# Altium schematic symbol library Symbols.SchLib: 29 symbols
Pins are listed as number, name and electrical type; pins without a type are passive.

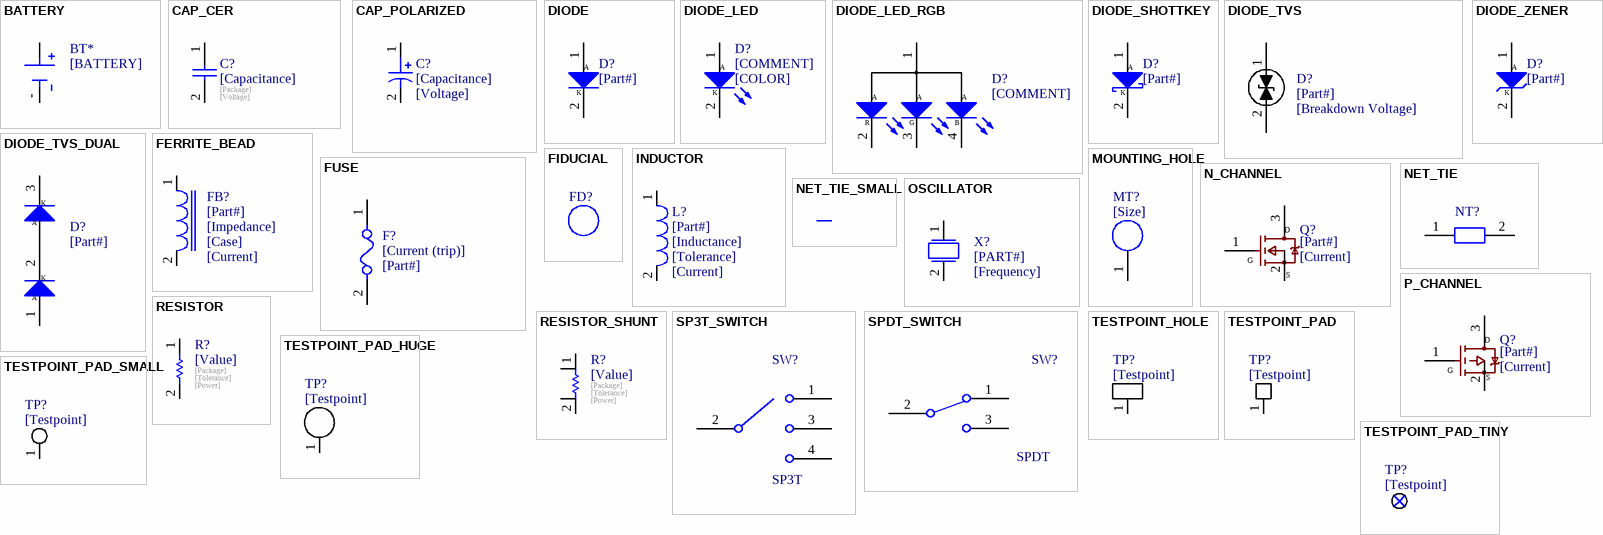
[diagram p0: symbols BATTERY to TESTPOINT_PAD_TINY]

## BATTERY
designator BT*, comment [BATTERY]
Mfr: *; Size: *; Capacity: *; Voltage - Max: *; Voltage - Nominal: *; Voltage - Min: *; Current - Max: *
pins: + (power), - (power)

## CAP_CER
designator C?, comment [Capacitance]  Voltage - Rated: [Voltage]  Footprint: [Package]
Generic SMT Ceramic Capacitor; Operating Temperature: *; Tolerance: *; Mfr: *; ComponentLink1Description: Digikey; ComponentLink1URL: [Digikey Link]; Digikey Part No: *; ComponentLink2Description: Datasheet; ComponentLink2URL: [Datasheet Link]
footprint CAP_0603
footprint CAP_0402
footprint CAP_0805 (Generic 0805 capacitor)
footprint CAP_1206
footprint CAP_0201
footprint CAP_1812
footprint CAP_2220
pins: 1, 2

## CAP_POLARIZED
designator C?, comment [Capacitance]  Rated Voltage: [Voltage]
Polarized Capacitor; Mfr: *; Tolerance: *; Operating Temperature: *; Digikey Part Number: *
pins: 1, 2
1 alternate drawing of the same symbol

## DIODE
designator D?, comment [Part#]
Generic Diode; Diode Type: *; Current: *; Package / Case: *; Reverse Voltage: *; Forward Voltage: *
pins: 1 A, 2 K

## DIODE_LED
designator D?, comment [COMMENT]  Color: [COLOR]
Generic LED; Forward Voltage: *; Wavelength: *
footprint LED_0402
footprint LED_0603
pins: 1 A, 2 K

## DIODE_LED_RGB
designator D?, comment [COMMENT]
Common Anode Generic RGB LED; Forward Current: *; Forward Voltage: *; Operating Temperature: *
footprint LED_5mm_RGB_CA
pins: 1 A, 2 R, 3 G, 4 B

## DIODE_SHOTTKEY
designator D?, comment [Part#]
Generic Shottkey Diode; Diode Type: *; Current: *; Package / Case: *; Reverse Voltage: *; Forward Voltage: *
pins: 1 A, 2 K

## DIODE_TVS
designator D?, comment [Part#]  Voltage - Breakdown: [Breakdown Voltage]
Generic Bidirectional TVS Diode; Mfr: *; Voltage - Reverse: *; Operating Temperature: *; Package / Case: *; Current: *
pins: 1 A, 2 C

## DIODE_TVS_DUAL
designator D?, comment [Part#]
Generic 1 Pair Series Switching Diodes; Mfr: *; Operating Temperature: *; Package / Case: *; Current: *; Voltage - DC Reverse: *; Voltage - Forward: *; Reverse Recovery Time: *; Capacitance: *; Current - Reverse Leakage: *
footprint SOT23-3
pins: 1 A, 2 K, 3 K

## DIODE_ZENER
designator D?, comment [Part#]
Generic Zener Diode; Diode Type: *; Current: *; Package / Case: *; Reverse Voltage: *; Forward Voltage: *
pins: 1 A, 2 K

## FERRITE_BEAD
designator FB?, comment [Part#]  Impedance @ Freq: [Impedance]  Package / Case: [Case]  Current Rating: [Current]
Generic Inductor; Resistance: *; Operating Temperature: *; Rating: *
pins: 1, 2

## FIDUCIAL
designator FD?
footprint FIDUCIAL

## FUSE
designator F?, comment [Part#]  Current - Trip: [Current (trip)]
Generic Fuse / Polyswitch
pins: 1, 2

## INDUCTOR
designator L?, comment [Part#]  Inductance: [Inductance]  Tolerance: [Tolerance]  Current Rating: [Current]
Generic Inductor; Material: *; Resistance: *; Operating Temperature: *; Package / Case: *
pins: 1, 2

## MOUNTING_HOLE
designator MT?, comment [Size]  (no BOM)
footprint MTH_M2
footprint MTH_M2_5
footprint MTH_M3
footprint MTH_M4
footprint MTH_M6
pins: 1

## N_CHANNEL
designator Q?, comment [Part#]  Current: [Current]
N-Channel  Enhancement Mode Field Effect Transistor; Mfr: *; Package / Case: *; Vds: *; Rds ON: *; Vgs: *; Operating Temperature: *
pins: 1, 2, 3
text: D; G; S

## NET_TIE
designator NT?, comment Net Tie  (value not drawn)  (net tie, no BOM)
footprint NETTIE_20
footprint NETTIE_10
footprint NETTIE_6
footprint NETTIE_5
footprint NETTIE_9
pins: 1, 2

## NET_TIE_SMALL
designator NT?, comment Net Tie  (value not drawn)  (net tie, no BOM)
footprint NETTIE_20
footprint NETTIE_10
footprint NETTIE_6
footprint NETTIE_5
footprint NETTIE_9
pins: 1, 2

## OSCILLATOR
designator X?, comment [PART#]  Frequency: [Frequency]
Frequency Stability: *; Frequency Tolerance: *; Load Capacitance: *; Operating Temperature: *; Rating: *; Type: *
pins: 1, 2

## P_CHANNEL
designator Q?, comment [Part#]  Current: [Current]
P-Channel  Enhancement Mode Field Effect Transistor; Mfr: *; Package / Case: *; Vds: *; Rds ON: *; Vgs: *; Operating Temperature: *
pins: 1, 2, 3
text: D; G; S

## RESISTOR
designator R?, comment [Value]  Tolerance: [Tolerance]  Power: [Power]  Package / Case: [Package]
Resistor; Automotive: *; Operating Temperature: *; # Digikey: *; ComponentLink1Description: Digikey; ComponentLink1URL: *; # Manufacturer: *
footprint RES_0402 (0402 Generic Resistor)
footprint RES_0603
footprint RES_0805
footprint RES_1206
footprint RES_1210
footprint RES_2512
pins: 1, 2

## RESISTOR_SHUNT
designator R?, comment [Value]  Tolerance: [Tolerance]  Power: [Power]  Package / Case: [Package]
Resistor; Automotive: *; Operating Temperature: *; # Digikey: *; ComponentLink1Description: Digikey; ComponentLink1URL: *; # Manufacturer: *
footprint RES_0402 (0402 Generic Resistor)
footprint RES_0603
footprint RES_0805
footprint RES_1206
footprint RES_1210
footprint RES_2512
pins: 1, 1, 2, 2

## SP3T_SWITCH
designator SW?, comment SP3T
Generic SP3T Switch; Mfr: *; Switch Function: *; Current Rating: *; Voltage Rating - AC: *; Voltage Rating - DC: *; Operating Temperature: *; Cycles: *
pins: 1, 2, 3, 4

## SPDT_SWITCH
designator SW?, comment SPDT
Generic SPDT Switch; Mfr: *; Switch Function: *; Current Rating: *; Voltage Rating - AC: *; Voltage Rating - DC: *; Operating Temperature: *; Cycles: *
pins: 1 A, 2 P, 3 B

## TESTPOINT_HOLE
designator TP?, comment [Testpoint]  (no BOM)
Test Point
footprint TP_HOLE
pins: 1 A

## TESTPOINT_PAD
designator TP?, comment [Testpoint]  (no BOM)
Test Point
footprint TP_PAD
pins: 1 A

## TESTPOINT_PAD_HUGE
designator TP?, comment [Testpoint]  (no BOM)
Test Point
footprint TP_PAD_HUGE
pins: 1 A

## TESTPOINT_PAD_SMALL
designator TP?, comment [Testpoint]  (no BOM)
Test Point
footprint TP_PAD_SMALL
pins: 1 A

## TESTPOINT_PAD_TINY
designator TP?, comment [Testpoint]  (no BOM)
Test Point
footprint TP_PAD_TINY
pins: 1 A